# EAGLE library part STM32F769BGT6 (library ruark2)
ARM® Cortex®-M7 series Microcontroller IC 32-Bit 216MHz 1MB (1M x 8) FLASH 208-LQFP (28x28)
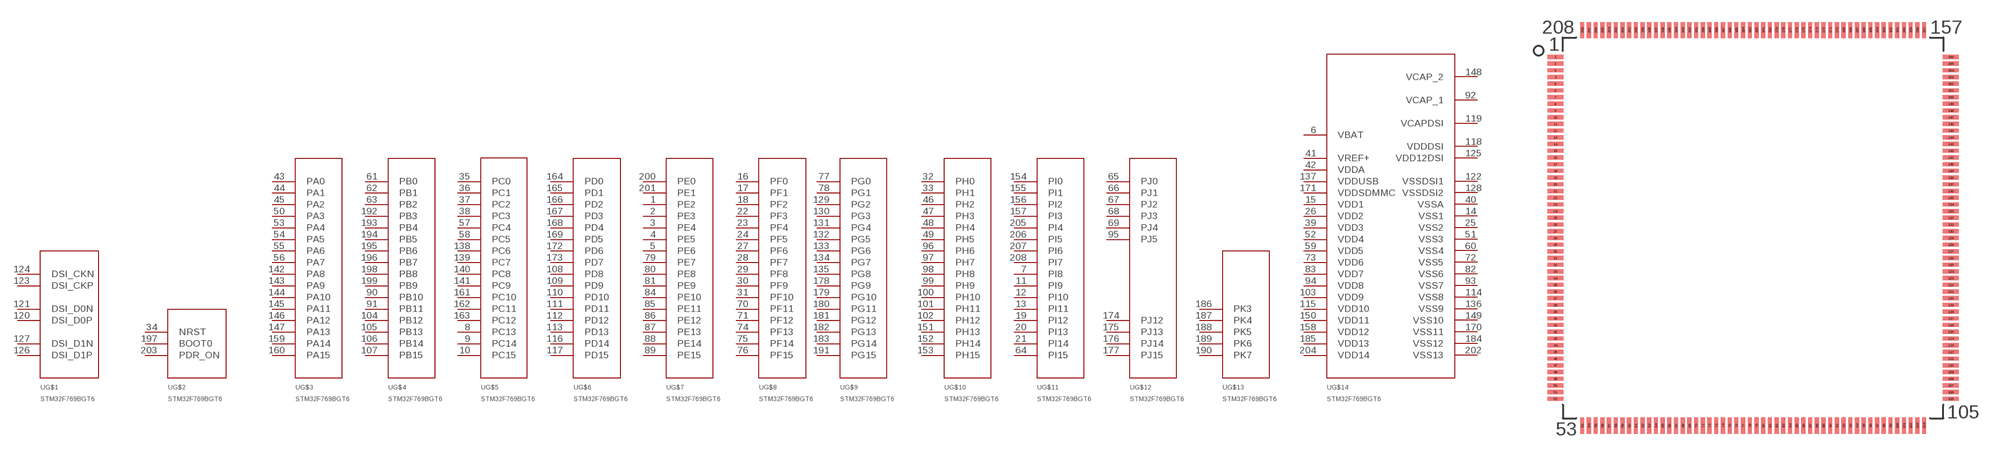
[diagram p137: symbol with the pads of LQFP208; footprint LQFP208]

Designator prefix U; gates G$1=STM32F769BGT6_DSI G$2=STM32F769BGT6_MISC G$3=STM32F769BGT6_PA G$4=STM32F769BGT6_PB G$5=STM32F769BGT6_PC G$6=STM32F769BGT6_PD G$7=STM32F769BGT6_PE G$8=STM32F769BGT6_PF G$9=STM32F769BGT6_PG G$10=STM32F769BGT6_PH G$11=STM32F769BGT6_PI G$12=STM32F769BGT6_PJ G$13=STM32F769BGT6_PK G$14=STM32F769BGT6_PWR

## STM32F769BGT6 (PARTNO: 497-16646-ND)  [LQFP208]
1  G$7:PE2
2  G$7:PE3
3  G$7:PE4
4  G$7:PE5
5  G$7:PE6
6  G$14:VBAT
7  G$11:PI8
8  G$5:PC13
9  G$5:PC14
10  G$5:PC15
11  G$11:PI9
12  G$11:PI10
13  G$11:PI11
14  G$14:VSS1
15  G$14:VDD1
16  G$8:PF0
17  G$8:PF1
18  G$8:PF2
19  G$11:PI12
20  G$11:PI13
21  G$11:PI14
22  G$8:PF3
23  G$8:PF4
24  G$8:PF5
25  G$14:VSS2
26  G$14:VDD2
27  G$8:PF6
28  G$8:PF7
29  G$8:PF8
30  G$8:PF9
31  G$8:PF10
32  G$10:PH0
33  G$10:PH1
34  G$2:NRST
35  G$5:PC0
36  G$5:PC1
37  G$5:PC2
38  G$5:PC3
39  G$14:VDD3
40  G$14:VSSA
41  G$14:VREF+
42  G$14:VDDA
43  G$3:PA0
44  G$3:PA1
45  G$3:PA2
46  G$10:PH2
47  G$10:PH3
48  G$10:PH4
49  G$10:PH5
50  G$3:PA3
51  G$14:VSS3
52  G$14:VDD4
53  G$3:PA4
54  G$3:PA5
55  G$3:PA6
56  G$3:PA7
57  G$5:PC4
58  G$5:PC5
59  G$14:VDD5
60  G$14:VSS4
61  G$4:PB0
62  G$4:PB1
63  G$4:PB2
64  G$11:PI15
65  G$12:PJ0
66  G$12:PJ1
67  G$12:PJ2
68  G$12:PJ3
69  G$12:PJ4
70  G$8:PF11
71  G$8:PF12
72  G$14:VSS5
73  G$14:VDD6
74  G$8:PF13
75  G$8:PF14
76  G$8:PF15
77  G$9:PG0
78  G$9:PG1
79  G$7:PE7
80  G$7:PE8
81  G$7:PE9
82  G$14:VSS6
83  G$14:VDD7
84  G$7:PE10
85  G$7:PE11
86  G$7:PE12
87  G$7:PE13
88  G$7:PE14
89  G$7:PE15
90  G$4:PB10
91  G$4:PB11
92  G$14:VCAP_1
93  G$14:VSS7
94  G$14:VDD8
95  G$12:PJ5
96  G$10:PH6
97  G$10:PH7
98  G$10:PH8
99  G$10:PH9
100  G$10:PH10
101  G$10:PH11
102  G$10:PH12
103  G$14:VDD9
104  G$4:PB12
105  G$4:PB13
106  G$4:PB14
107  G$4:PB15
108  G$6:PD8
109  G$6:PD9
110  G$6:PD10
111  G$6:PD11
112  G$6:PD12
113  G$6:PD13
114  G$14:VSS8
115  G$14:VDD10
116  G$6:PD14
117  G$6:PD15
118  G$14:VDDDSI
119  G$14:VCAPDSI
120  G$1:DSI_D0P
121  G$1:DSI_D0N
122  G$14:VSSDSI1
123  G$1:DSI_CKP
124  G$1:DSI_CKN
125  G$14:VDD12DSI
126  G$1:DSI_D1P
127  G$1:DSI_D1N
128  G$14:VSSDSI2
129  G$9:PG2
130  G$9:PG3
131  G$9:PG4
132  G$9:PG5
133  G$9:PG6
134  G$9:PG7
135  G$9:PG8
136  G$14:VSS9
137  G$14:VDDUSB
138  G$5:PC6
139  G$5:PC7
140  G$5:PC8
141  G$5:PC9
142  G$3:PA8
143  G$3:PA9
144  G$3:PA10
145  G$3:PA11
146  G$3:PA12
147  G$3:PA13
148  G$14:VCAP_2
149  G$14:VSS10
150  G$14:VDD11
151  G$10:PH13
152  G$10:PH14
153  G$10:PH15
154  G$11:PI0
155  G$11:PI1
156  G$11:PI2
157  G$11:PI3
158  G$14:VDD12
159  G$3:PA14
160  G$3:PA15
161  G$5:PC10
162  G$5:PC11
163  G$5:PC12
164  G$6:PD0
165  G$6:PD1
166  G$6:PD2
167  G$6:PD3
168  G$6:PD4
169  G$6:PD5
170  G$14:VSS11
171  G$14:VDDSDMMC
172  G$6:PD6
173  G$6:PD7
174  G$12:PJ12
175  G$12:PJ13
176  G$12:PJ14
177  G$12:PJ15
178  G$9:PG9
179  G$9:PG10
180  G$9:PG11
181  G$9:PG12
182  G$9:PG13
183  G$9:PG14
184  G$14:VSS12
185  G$14:VDD13
186  G$13:PK3
187  G$13:PK4
188  G$13:PK5
189  G$13:PK6
190  G$13:PK7
191  G$9:PG15
192  G$4:PB3
193  G$4:PB4
194  G$4:PB5
195  G$4:PB6
196  G$4:PB7
197  G$2:BOOT0
198  G$4:PB8
199  G$4:PB9
200  G$7:PE0
201  G$7:PE1
202  G$14:VSS13
203  G$2:PDR_ON
204  G$14:VDD14
205  G$11:PI4
206  G$11:PI5
207  G$11:PI6
208  G$11:PI7

## Footprint LQFP208 (pad centres in mm)
smd 1.2 x 0.3: 1 -14.75,12.75; 2 -14.75,12.25; 3 -14.75,11.75; 4 -14.75,11.25; 5 -14.75,10.75; 6 -14.75,10.25; 7 -14.75,9.75; 8 -14.75,9.25; 9 -14.75,8.75; 10 -14.75,8.25; 11 -14.75,7.75; 12 -14.75,7.25; 13 -14.75,6.75; 14 -14.75,6.25; 15 -14.75,5.75; 16 -14.75,5.25; 17 -14.75,4.75; 18 -14.75,4.25; 19 -14.75,3.75; 20 -14.75,3.25; 21 -14.75,2.75; 22 -14.75,2.25; 23 -14.75,1.75; 24 -14.75,1.25; 25 -14.75,0.75; 26 -14.75,0.25; 27 -14.75,-0.25; 28 -14.75,-0.75; 29 -14.75,-1.25; 30 -14.75,-1.75; 31 -14.75,-2.25; 32 -14.75,-2.75; 33 -14.75,-3.25; 34 -14.75,-3.75; 35 -14.75,-4.25; 36 -14.75,-4.75; 37 -14.75,-5.25; 38 -14.75,-5.75; 39 -14.75,-6.25; 40 -14.75,-6.75; 41 -14.75,-7.25; 42 -14.75,-7.75; 43 -14.75,-8.25; 44 -14.75,-8.75; 45 -14.75,-9.25; 46 -14.75,-9.75; 47 -14.75,-10.25; 48 -14.75,-10.75; 49 -14.75,-11.25; 50 -14.75,-11.75; 51 -14.75,-12.25; 52 -14.75,-12.75; 105 14.75,-12.75; 106 14.75,-12.25; 107 14.75,-11.75; 108 14.75,-11.25; 109 14.75,-10.75; 110 14.75,-10.25; 111 14.75,-9.75; 112 14.75,-9.25; 113 14.75,-8.75; 114 14.75,-8.25; 115 14.75,-7.75; 116 14.75,-7.25; 117 14.75,-6.75; 118 14.75,-6.25; 119 14.75,-5.75; 120 14.75,-5.25; 121 14.75,-4.75; 122 14.75,-4.25; 123 14.75,-3.75; 124 14.75,-3.25; 125 14.75,-2.75; 126 14.75,-2.25; 127 14.75,-1.75; 128 14.75,-1.25; 129 14.75,-0.75; 130 14.75,-0.25; 131 14.75,0.25; 132 14.75,0.75; 133 14.75,1.25; 134 14.75,1.75; 135 14.75,2.25; 136 14.75,2.75; 137 14.75,3.25; 138 14.75,3.75; 139 14.75,4.25; 140 14.75,4.75; 141 14.75,5.25; 142 14.75,5.75; 143 14.75,6.25; 144 14.75,6.75; 145 14.75,7.25; 146 14.75,7.75; 147 14.75,8.25; 148 14.75,8.75; 149 14.75,9.25; 150 14.75,9.75; 151 14.75,10.25; 152 14.75,10.75; 153 14.75,11.25; 154 14.75,11.75; 155 14.75,12.25; 156 14.75,12.75
smd 0.3 x 1.2: 53 -12.75,-14.75; 54 -12.25,-14.75; 55 -11.75,-14.75; 56 -11.25,-14.75; 57 -10.75,-14.75; 58 -10.25,-14.75; 59 -9.75,-14.75; 60 -9.25,-14.75; 61 -8.75,-14.75; 62 -8.25,-14.75; 63 -7.75,-14.75; 64 -7.25,-14.75; 65 -6.75,-14.75; 66 -6.25,-14.75; 67 -5.75,-14.75; 68 -5.25,-14.75; 69 -4.75,-14.75; 70 -4.25,-14.75; 71 -3.75,-14.75; 72 -3.25,-14.75; 73 -2.75,-14.75; 74 -2.25,-14.75; 75 -1.75,-14.75; 76 -1.25,-14.75; 77 -0.75,-14.75; 78 -0.25,-14.75; 79 0.25,-14.75; 80 0.75,-14.75; 81 1.25,-14.75; 82 1.75,-14.75; 83 2.25,-14.75; 84 2.75,-14.75; 85 3.25,-14.75; 86 3.75,-14.75; 87 4.25,-14.75; 88 4.75,-14.75; 89 5.25,-14.75; 90 5.75,-14.75; 91 6.25,-14.75; 92 6.75,-14.75; 93 7.25,-14.75; 94 7.75,-14.75; 95 8.25,-14.75; 96 8.75,-14.75; 97 9.25,-14.75; 98 9.75,-14.75; 99 10.25,-14.75; 100 10.75,-14.75; 101 11.25,-14.75; 102 11.75,-14.75; 103 12.25,-14.75; 104 12.75,-14.75; 157 12.75,14.75; 158 12.25,14.75; 159 11.75,14.75; 160 11.25,14.75; 161 10.75,14.75; 162 10.25,14.75; 163 9.75,14.75; 164 9.25,14.75; 165 8.75,14.75; 166 8.25,14.75; 167 7.75,14.75; 168 7.25,14.75; 169 6.75,14.75; 170 6.25,14.75; 171 5.75,14.75; 172 5.25,14.75; 173 4.75,14.75; 174 4.25,14.75; 175 3.75,14.75; 176 3.25,14.75; 177 2.75,14.75; 178 2.25,14.75; 179 1.75,14.75; 180 1.25,14.75; 181 0.75,14.75; 182 0.25,14.75; 183 -0.25,14.75; 184 -0.75,14.75; 185 -1.25,14.75; 186 -1.75,14.75; 187 -2.25,14.75; 188 -2.75,14.75; 189 -3.25,14.75; 190 -3.75,14.75; 191 -4.25,14.75; 192 -4.75,14.75; 193 -5.25,14.75; 194 -5.75,14.75; 195 -6.25,14.75; 196 -6.75,14.75; 197 -7.25,14.75; 198 -7.75,14.75; 199 -8.25,14.75; 200 -8.75,14.75; 201 -9.25,14.75; 202 -9.75,14.75; 203 -10.25,14.75; 204 -10.75,14.75; 205 -11.25,14.75; 206 -11.75,14.75; 207 -12.25,14.75; 208 -12.75,14.75